# EAGLE library part TCA62724 (library wheat)
LED driver RGB Tosh TCA62724 SON10
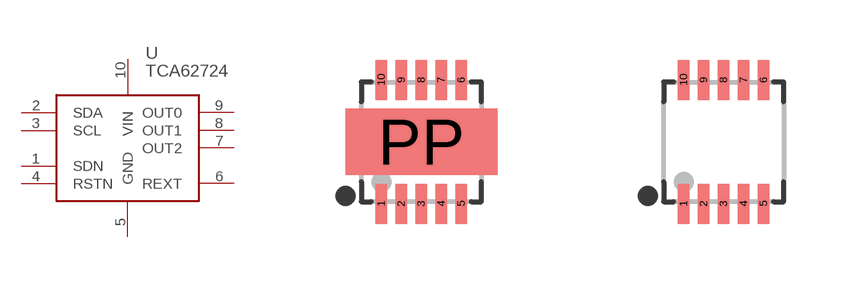
[diagram p104: symbol with the pads of SON10; footprints SON10, SON10_NOPP]

Designator prefix U

## TCA62724FMG  [SON10]
1  SDN  in
2  SDA
3  SCL
4  RSTN  in
5  GND  pas
6  REXT  pas
7  OUT2  out
8  OUT1  out
9  OUT0  out
10  VIN  pas

## TCA62724  [SON10_NOPP]
Pads as for SON10

## Footprint SON10 (pad centres in mm)
SON10
smd 0.28 x 1: 1 -1,-1.55; 2 -0.5,-1.55; 3 0,-1.55; 4 0.5,-1.55; 5 1,-1.55; 6 1,1.55; 7 0.5,1.55; 8 0,1.55; 9 -0.5,1.55; 10 -1,1.55
smd 3.8 x 1.65: PP 0,0

## Footprint SON10_NOPP (pad centres in mm)
SON10 with no powerpad
smd 0.28 x 1: 1 -1,-1.55; 2 -0.5,-1.55; 3 0,-1.55; 4 0.5,-1.55; 5 1,-1.55; 6 1,1.55; 7 0.5,1.55; 8 0,1.55; 9 -0.5,1.55; 10 -1,1.55